# Altium schematic symbol library AudioAmplifierBasic.SchLib: 29 symbols
Pins are listed as number, name and electrical type; pins without a type are passive.

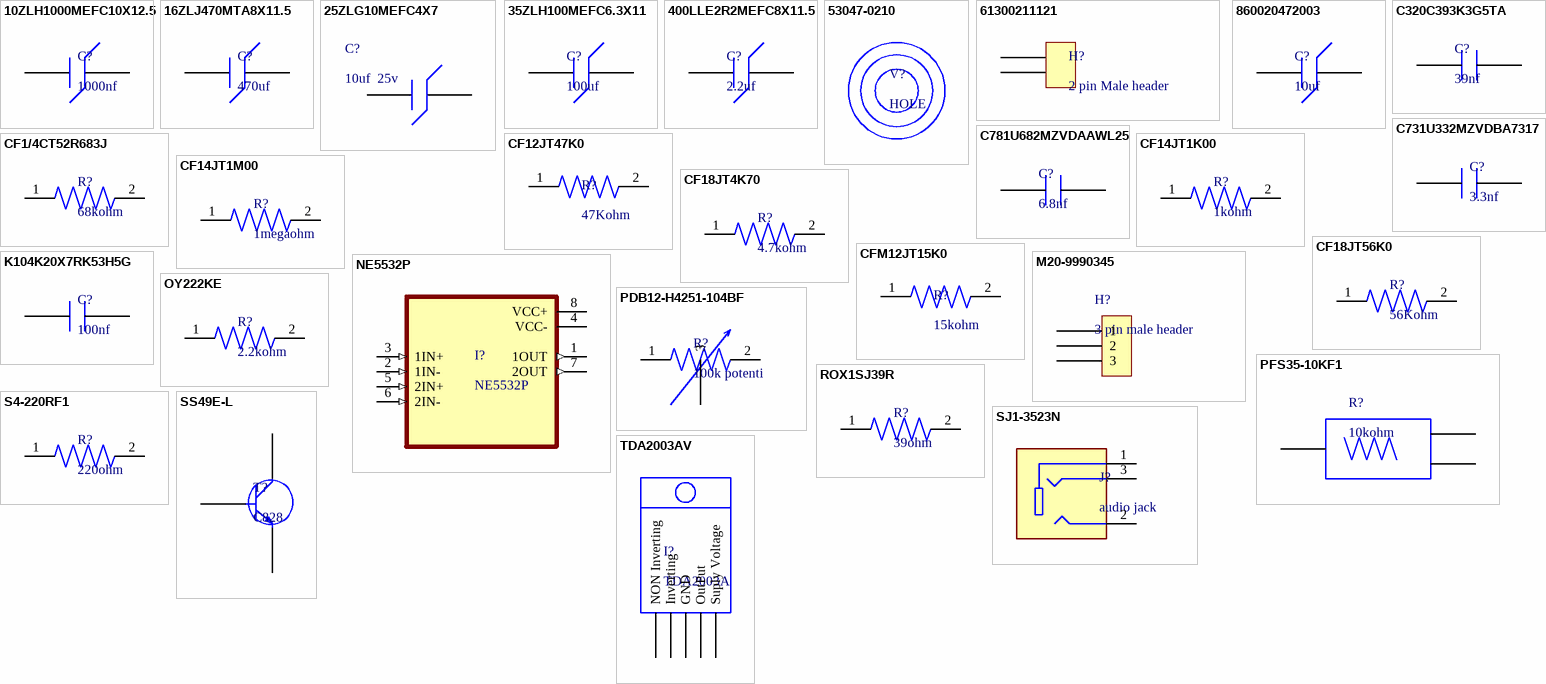
[diagram p0: symbols 10ZLH1000MEFC10X12.5 to TDA2003AV]

## 10ZLH1000MEFC10X12.5
designator C?, comment 1000nf
Aluminum Electrolytic Capacitor, Polarized, Aluminum (wet), 10V, 20% +Tol, 20% -Tol, 1000uF, Through Hole Mount; Manufacturer: Rubycon; Manufacturer Part Number: 10ZLH1000MEFC10X12.5; Dielectric Material: Aluminium; Value: 1mF; Ripple Current: 1.33A; Supplier: Digikey; Supplier Part Number: 1189-1072-ND; RoHS: Yes; Category: Aluminum Electrolytic Capacitors; Stock: 171118; Pricing: 1=0.51, 10=0.318, 50=0.2356, 100=0.2095, 500=0.16416, 1000=0.14984, 3000=0.13193, 5000=0.12524 (USD); Pins: 2; Min Operating Temperature: -40°C; Max Operating Temperature: 105°C; Polarity: Polarized; Capacitor Type: Aluminium; Tolerance  (fill in as +-): 20%; Package Style: RadialMeter; Packaging: Bulk; Tolerance (fill in as +-): 20%; Rated DC Voltage (URdc): 10V; Diameter: 10mm; Length: 12.5mm; Terminal Pitch: 5mm; Reach SVHC Compliant: Yes; RoHS Compliant: Yes; ComponentLink1URL: https://datasheet.ciiva.com:443/pdfs/VipMasterIC/IC/RUBY/RUBYS01453/RUBYS01453-1.pdf?src-supplier=IHS+Markit; ComponentLink1Description: https://datasheet.ciiva.com:443/pdfs/VipMasterIC/IC/RUBY/RUBYS01453/RUBYS01453-1.pdf?src-supplier=IHS+Markit; ComponentLink2URL: https://datasheet.ciiva.com/11779/0900766b80e2f602-11779591.pdf?src-supplier=Rs; ComponentLink2Description: https://datasheet.ciiva.com/11779/0900766b80e2f602-11779591.pdf?src-supplier=Rs; ComponentLink3URL: https://datasheet.ciiva.com/6316/e-zlh-6316685.pdf?src-supplier=Digikey; ComponentLink3Description: https://datasheet.ciiva.com/6316/e-zlh-6316685.pdf?src-supplier=Digikey; ComponentLink4URL: https://datasheet.ciiva.com/11690/e-zlh-11690747.pdf?src-supplier=Avnet; ComponentLink4Description: https://datasheet.ciiva.com/11690/e-zlh-11690747.pdf?src-supplier=Avnet; ComponentLink5URL: https://datasheet.ciiva.com/22732/1910927-22732378.pdf?src-supplier=Element14; ComponentLink5Description: https://datasheet.ciiva.com/22732/1910927-22732378.pdf?src-supplier=Element14
footprint Capasitor
pins: 1, 2

## 16ZLJ470MTA8X11.5
designator C?, comment 470uf
Aluminum Electrolytic Capacitor, Polarized, Aluminum (wet), 16V, 20% +Tol, 20% -Tol, 470uF; Manufacturer: Rubycon; Manufacturer Part Number: 16ZLJ470MTA8X11.5; Dielectric Material: Aluminium; Ripple Current: 1.2A; Supplier: Digikey; Supplier Part Number: 1189-1549-1-ND; RoHS: Yes; Category: Aluminum Electrolytic Capacitors; Stock: 34781; Pricing: 1=0.49, 10=0.305, 50=0.2254, 100=0.2001, 500=0.15654 (USD); Pins: 2; Min Operating Temperature: -40°C; Max Operating Temperature: 105°C; Polarity: Polarized; Value: 470uF; Capacitor Type: Aluminium; Tolerance  (fill in as +-): 20%; Package Style: RadialMeter; Packaging: Tape and Reel; Tolerance (fill in as +-): 20%; Rated DC Voltage (URdc): 16V; Diameter: 8mm; Length: 11.5mm; Terminal Pitch: 5mm; Reach SVHC Compliant: Yes; RoHS Compliant: Yes; ComponentLink1URL: https://datasheet.ciiva.com:443/pdfs/VipMasterIC/IC/RUBY/RUBYS01454/RUBYS01454-1.pdf?src-supplier=IHS+Markit; ComponentLink1Description: https://datasheet.ciiva.com:443/pdfs/VipMasterIC/IC/RUBY/RUBYS01454/RUBYS01454-1.pdf?src-supplier=IHS+Markit; ComponentLink2URL: https://datasheet.ciiva.com/22732/1725816-22732487.pdf?src-supplier=Element14; ComponentLink2Description: https://datasheet.ciiva.com/22732/1725816-22732487.pdf?src-supplier=Element14; ComponentLink3URL: https://datasheet.ciiva.com/6300/e-zlj-6300999.pdf?src-supplier=Digikey; ComponentLink3Description: https://datasheet.ciiva.com/6300/e-zlj-6300999.pdf?src-supplier=Digikey; ComponentLink4URL: https://datasheet.ciiva.com/6301/e-zlj-6301065.pdf?src-supplier=Digikey; ComponentLink4Description: https://datasheet.ciiva.com/6301/e-zlj-6301065.pdf?src-supplier=Digikey
footprint Capasitor
pins: 1, 2

## 25ZLG10MEFC4X7
designator C?, comment 10uf  25v
Aluminum Electrolytic Capacitor, Polarized, Aluminum (wet), 25V, 20% +Tol, 20% -Tol, 10uF, Through Hole Mount; Manufacturer: Rubycon; Manufacturer Part Number: 25ZLG10MEFC4X7; Dielectric Material: Aluminium; Leakage Current: 7.5uA; Ripple Current: 55.2mA; Tan Delta: 0.14; Supplier: Farnell; Supplier Part Number: 1281813; RoHS: Yes; Category: Aluminum Electrolytic Capacitors; Pricing: 10=0.161, 100=0.0857, 500=0.084 (GBP); Mounting Technology: Through Hole; Pins: 2; Package Shape: Cylindrical; Min Operating Temperature: -40°C; Max Operating Temperature: 105°C; Polarity: Polarized; Value: 10uF; Capacitor Type: Aluminium; Tolerance  (fill in as +-): 20%; Package Style: RadialMeter; Packaging: Bulk; Tolerance (fill in as +-): 20%; Rated DC Voltage (URdc): 25V; Termination: Wire; Diameter: 4mm; Length: 7mm; Terminal Pitch: 1.5mm; Reach SVHC Compliant: Yes; RoHS Compliant: Yes; ComponentLink1URL: https://datasheet.ciiva.com:443/pdfs/VipMasterIC/IC/RUBY/RUBY-S-A0008141769/RUBY-S-A0008141769-1.pdf?src-supplier=IHS+Markit; ComponentLink1Description: https://datasheet.ciiva.com:443/pdfs/VipMasterIC/IC/RUBY/RUBY-S-A0008141769/RUBY-S-A0008141769-1.pdf?src-supplier=IHS+Markit; ComponentLink2URL: https://datasheet.ciiva.com/6309/e-zlg-6309557.pdf?src-supplier=Digikey; ComponentLink2Description: https://datasheet.ciiva.com/6309/e-zlg-6309557.pdf?src-supplier=Digikey; ComponentLink3URL: https://datasheet.ciiva.com/11691/e-zlg-11691071.pdf?src-supplier=Avnet; ComponentLink3Description: https://datasheet.ciiva.com/11691/e-zlg-11691071.pdf?src-supplier=Avnet; ComponentLink4URL: https://datasheet.ciiva.com/1455/48838-1455972.pdf?src-supplier=Element14; ComponentLink4Description: https://datasheet.ciiva.com/1455/48838-1455972.pdf?src-supplier=Element14
footprint Capasitor
pins: 1, 2

## 35ZLH100MEFC6.3X11
designator C?, comment 100uf
Aluminum Electrolytic Capacitor, Polarized, Aluminum (wet), 35V, 20% +Tol, 20% -Tol, 100uF, Through Hole Mount; Manufacturer: Rubycon; Manufacturer Part Number: 35ZLH100MEFC6.3X11; Manufacturer Series: ZLH; Dielectric Material: Aluminium; Ripple Current: 540mA; Supplier: Digikey; Supplier Part Number: 1189-1300-ND; RoHS: Yes; Category: Aluminum Electrolytic Capacitors; Stock: 13897; Pricing: 1=0.31, 10=0.187, 50=0.1362, 100=0.1201, 500=0.09204, 2000=0.07579, 4000=0.06965, 6000=0.06655 (USD); Pins: 2; Min Operating Temperature: -40°C; Max Operating Temperature: 105°C; Polarity: Polarized; Value: 100uF; Capacitor Type: Aluminium; Tolerance  (fill in as +-): 20%; Package Style: RadialMeter; Packaging: Bulk; Tolerance (fill in as +-): 20%; Rated DC Voltage (URdc): 35V; Diameter: 6.3mm; Length: 11mm; Terminal Pitch: 2.5mm; Reach SVHC Compliant: Yes; RoHS Compliant: Yes; ComponentLink1URL: https://datasheet.ciiva.com:443/pdfs/VipMasterIC/IC/RUBY/RUBYS01453/RUBYS01453-1.pdf?src-supplier=IHS+Markit; ComponentLink1Description: https://datasheet.ciiva.com:443/pdfs/VipMasterIC/IC/RUBY/RUBYS01453/RUBYS01453-1.pdf?src-supplier=IHS+Markit; ComponentLink2URL: https://datasheet.ciiva.com/11782/0900766b80e2f602-11782304.pdf?src-supplier=Rs; ComponentLink2Description: https://datasheet.ciiva.com/11782/0900766b80e2f602-11782304.pdf?src-supplier=Rs; ComponentLink3URL: https://datasheet.ciiva.com/11690/e-zlh-11690956.pdf?src-supplier=Avnet; ComponentLink3Description: https://datasheet.ciiva.com/11690/e-zlh-11690956.pdf?src-supplier=Avnet; ComponentLink4URL: https://datasheet.ciiva.com/1456/e-zlh-1456215.pdf?src-supplier=Element14; ComponentLink4Description: https://datasheet.ciiva.com/1456/e-zlh-1456215.pdf?src-supplier=Element14; ComponentLink5URL: https://datasheet.ciiva.com/5713/e-zlh-5713612.pdf?src-supplier=Farnell; ComponentLink5Description: https://datasheet.ciiva.com/5713/e-zlh-5713612.pdf?src-supplier=Farnell; ComponentLink6URL: https://datasheet.ciiva.com/6311/e-zlh-6311224.pdf?src-supplier=Digikey; ComponentLink6Description: https://datasheet.ciiva.com/6311/e-zlh-6311224.pdf?src-supplier=Digikey
footprint Capasitor
pins: 1, 2

## 400LLE2R2MEFC8X11.5
designator C?, comment 2.2uf
Aluminum Electrolytic Capacitor, Polarized, Aluminum (wet), 400V, 20% +Tol, 20% -Tol, 2.2uF, Through Hole Mount; Manufacturer: Rubycon; Manufacturer Part Number: 400LLE2R2MEFC8X11.5; Supplier: Digikey; Supplier Part Number: 1189-1329-ND; RoHS: Yes; Category: Aluminum Electrolytic Capacitors; Stock: 36469; Pricing: 1=0.53, 10=0.326, 50=0.2416, 100=0.2148, 500=0.16848, 2000=0.14171, 4000=0.1316, 6000=0.1265 (USD); ComponentLink1URL: https://datasheet.ciiva.com:443/pdfs/VipMasterIC/IC/RUBY/RUBYS01654/RUBYS01654-1.pdf?src-supplier=IHS+Markit; ComponentLink1Description: https://datasheet.ciiva.com:443/pdfs/VipMasterIC/IC/RUBY/RUBYS01654/RUBYS01654-1.pdf?src-supplier=IHS+Markit; ComponentLink2URL: https://datasheet.ciiva.com/29544/e-lle-29544381.pdf?src-supplier=Digikey; ComponentLink2Description: https://datasheet.ciiva.com/29544/e-lle-29544381.pdf?src-supplier=Digikey
footprint Capasitor
pins: 1, 2

## 53047-0210
designator V?, comment HOLE
Board Connector, 2 Contact(s), 1 Row(s), Male, Straight, 0.049 inch Pitch, Solder Terminal, Locking, White Insulator, Receptacle; Manufacturer: Molex; Manufacturer Part Number: 53047-0210; Option: General Purpose; Filter Feature: No; Number of Contacts: 2; Number Of PCB Rows: 1; PCB Contact Pattern: RECTANGULAR; Contact Style: Blade Pin; Mating Information: MULTIPLE MATING PARTS AVAILABLE; Polarization Key: POLARIZED HOUSING; Body Breadth: 0.126inch; Body Depth: 0.165inch; Body Length: 0.167inch; Reference Standard: UL; Reliability: COMMERCIAL; Supplier: Mouser; Supplier Part Number: 538-53047-0210; RoHS: Yes; Category: Headers and Wire Housings; Stock: 47127; Pricing: 1=0.17, 10=0.145, 50=0.122, 100=0.112, 1000=0.09, 10000=0.08 (USD); Mounting Technology: Board; Contact Finish - Mating: TIN; Contact Finish - Termination: Tin (Sn); Insulation Material: Nylon; Insulation Color: White; Termination: Solder; JESD-609 Code: e3; Connector Type: BOARD CONNECTOR; Contact Gender: Male; Mixed Contacts: No; Mounting Style: STRAIGHT; Body/Shell Style: RECEPTACLE; Number of Rows Loaded: 1; Contact Pattern: RECTANGULAR; Number Of Connectors: 1; Terminal Pitch: 1.25mm; Terminal Length: 0.09inch; Mating Contact Pitch: 0.049inch; Mounting Option 1: LOCKING; Flammability Rating: UL94 V-0; RoHS Compliant: Yes; Reach SVHC Compliant: Yes; DIN Conformance: No; IEC Conformance: No; MIL Conformance: No; ComponentLink1URL: https://datasheet.ciiva.com:443/pdfs/VipMasterIC/IC/MOLE/MOLES57524/MOLES57524-1.pdf?src-supplier=IHS+Markit; ComponentLink1Description: https://datasheet.ciiva.com:443/pdfs/VipMasterIC/IC/MOLE/MOLES57524/MOLES57524-1.pdf?src-supplier=IHS+Markit
footprint Via

## 61300211121
designator H?, comment 2 pin Male header
Board Connector, 2 Contact(s), 1 Row(s), Male, Straight, 0.1 inch Pitch, Solder Terminal, Locking, Black Insulator, Plug; Manufacturer: Wurth Electronics; Manufacturer Part Number: 61300211121; Option: General Purpose; Contact Pattern: RECTANGULAR; Contact Resistance: 20mR; Contact Style: SQ PIN-SKT; Dielectric Withstanding Voltage (AC): 500V; Filter Feature: No; Insulation Resistance: 1GR; Number Of Connectors: 1; Rated Current (Signal): 3A; Number of Contacts: 2; Body Length: 0.2inch; Reference Standard: UL; Reliability: COMMERCIAL; Supplier: Digikey; Supplier Part Number: 732-5315-ND; RoHS: Yes; Category: Headers and Wire Housings; Stock: 123899; Pricing: 1=0.12, 10=0.102, 25=0.0848, 50=0.0712, 100=0.0639, 1000=0.06 (USD); Mounting Technology: Board; Contact Material: Copper Alloy; Contact Finish - Mating: GOLD; Contact Finish - Termination: Gold (Au) - with Nickel (Ni) barrier; Insulation Color: Black; Insulation Material: Polybutylene; Min Operating Temperature: -40°C; Max Operating Temperature: 125°C; Connector Type: BOARD CONNECTOR; JESD-609 Code: e4; Body/Shell Style: PLUG; Contact Gender: Male; Mixed Contacts: No; Mounting Style: STRAIGHT; Number of Rows Loaded: 1; PCB Contact Pattern: RECTANGULAR; Termination: Solder; Body Breadth: 0.1inch; Body Depth: 0.1inch; Mating Contact Pitch: 0.1inch; Mounting Option 1: LOCKING; Terminal Length: 0.118inch; Terminal Pitch: 2.54mm; Flammability Rating: UL94 V-0; Reach SVHC Compliant: Yes; RoHS Compliant: Yes; DIN Conformance: No; IEC Conformance: No; MIL Conformance: No; ComponentLink1URL: https://datasheet.ciiva.com:443/pdfs/VipMasterIC/IC/MIDC/MIDCS07676/MIDCS07676-1.pdf?src-supplier=IHS+Markit; ComponentLink1Description: https://datasheet.ciiva.com:443/pdfs/VipMasterIC/IC/MIDC/MIDCS07676/MIDCS07676-1.pdf?src-supplier=IHS+Markit; ComponentLink2URL: https://datasheet.ciiva.com/13619/6130xx11121-48870-13619345.pdf?src-supplier=Mouser; ComponentLink2Description: https://datasheet.ciiva.com/13619/6130xx11121-48870-13619345.pdf?src-supplier=Mouser
footprint 2pin Male Heder
pins: 1 10, 2 11

## 860020472003
designator C?, comment 10uf
Aluminum Electrolytic Capacitor, Aluminum (wet); Manufacturer: Wurth Electronics; Manufacturer Part Number: 860020472003; Dielectric Material: Aluminium; Supplier: Digikey; Supplier Part Number: 732-8820-1-ND; RoHS: Yes; Category: Aluminum Electrolytic Capacitors; Stock: 7970; Pricing: 1=0.1, 50=0.0802, 100=0.0702, 250=0.06212, 500=0.054, 1000=0.0522 (USD); Pins: 2; Capacitor Type: Aluminium; Reach SVHC Compliant: Yes; RoHS Compliant: Yes; ComponentLink1URL: https://datasheet.ciiva.com:443/pdfs/VipMasterIC/IC/MIDC/MIDC-S-A0000766074/MIDC-S-A0000765973-1.pdf?src-supplier=IHS+Markit; ComponentLink1Description: https://datasheet.ciiva.com:443/pdfs/VipMasterIC/IC/MIDC/MIDC-S-A0000766074/MIDC-S-A0000765973-1.pdf?src-supplier=IHS+Markit; ComponentLink2URL: https://katalog.we-online.de/pbs/datasheet/860020472003.pdf?src-supplier=Digikey; ComponentLink2Description: https://katalog.we-online.de/pbs/datasheet/860020472003.pdf?src-supplier=Digikey
footprint Capasitor
pins: 1, 2

## C320C393K3G5TA
designator C?, comment 39nf
Manufacturer: KEMET; Manufacturer Part Number: C320C393K3G5TA; Supplier: Digikey; Supplier Part Number: C320C393K3G5TA-ND; RoHS: No; Category: Ceramic Capacitors; Pricing: 1500=0.15707 (USD)
footprint Ceramic Capacitor 2
pins: 1, 2

## C731U332MZVDBA7317
designator C?, comment 3.3nf
Manufacturer: KEMET; Manufacturer Part Number: C731U332MZVDBA7317; Supplier: Digikey; Supplier Part Number: 399-C731U332MZVDBA7317CT-ND; RoHS: No; Stock: 4998; Pricing: 1=1.17, 10=0.757, 100=0.5449 (USD)
footprint ceramic Capacitor
pins: 1, 2

## C781U682MZVDAAWL25
designator C?, comment 6.8nf
C700KJY SFTY X1-440 Y2-300, Ceramic, 6800 pF, 20%, 440 VAC (X1), 300 VAC (Y2), Y5V, Lead Spacing = 10mm; Manufacturer: KEMET; Manufacturer Part Number: C781U682MZVDAAWL25; Supplier: Mouser; Supplier Part Number: 80-C781U682MZVDAWL25; Stock: 168; Pricing: 1=2.61, 10=2.11, 50=2.11, 100=1.96, 1000=1.34, 10000=1.29 (USD); ComponentLink1URL: https://datasheet.octopart.com/C781U682MZVDAAWL25-KEMET-datasheet-181955793.pdf?src-supplier=Farnell; ComponentLink1Description: https://datasheet.octopart.com/C781U682MZVDAAWL25-KEMET-datasheet-181955793.pdf?src-supplier=Farnell
footprint ceramic Capacitor
pins: 1 6, 2 7

## CF1/4CT52R683J
designator R?, comment 68kohm
Fixed Resistor, Carbon Film, 0.25W, 68000ohm, 300V, 5% +/-Tol, -450,350ppm/Cel, Through Hole Mount; Manufacturer: KOA Speer; Manufacturer Part Number: CF1/4CT52R683J; Power: 250mW; Rated Temperature: 70°C; Value: 68kR; Temperature Coefficient (ppm/Cel): 450; Lead Diameter: 0.6mm; Lead Length: 14mm; Package Length: 6.1mm; Reference Standard: IEC60115-2; Supplier: Digikey; Supplier Part Number: 2019-CF1/4CT52R683JCT-ND; RoHS: Yes; Category: Through-Hole Resistors; Stock: 44894; Pricing: 1=0.1, 10=0.046, 25=0.0384, 50=0.0336, 100=0.0296, 250=0.02512, 500=0.0223, 1000=0.01992 (USD); Mounting Technology: Through Hole; Pins: 2; Package Shape: Tubular; Terminal Finish: Copper; Min Operating Temperature: -55°C; Max Operating Temperature: 155°C; Tolerance: 5%; JESD-609 Code: e2; Resistor Type: FIXED RESISTOR; Construction: Cylindrical; Package Style: AXIAL; Packaging: Tape and Reel; Technology: CARBON FILM; Termination: Wire; Working Voltage: 300V; Reach SVHC Compliant: Yes; RoHS Compliant: Yes; ComponentLink1URL: https://datasheet.ciiva.com:443/pdfs/VipMasterIC/IC/KOAS/KOAS-S-A0009586278/KOAS-S-A0009586278-1.pdf?src-supplier=IHS+Markit; ComponentLink1Description: https://datasheet.ciiva.com:443/pdfs/VipMasterIC/IC/KOAS/KOAS-S-A0009586278/KOAS-S-A0009586278-1.pdf?src-supplier=IHS+Markit; ComponentLink2URL: https://datasheet.ciiva.com/5478/cf-5478892.pdf?src-supplier=Mouser; ComponentLink2Description: https://datasheet.ciiva.com/5478/cf-5478892.pdf?src-supplier=Mouser
footprint Resistor
pins: 1, 2

## CF12JT47K0
designator R?, comment 47Kohm
Fixed Resistor, Carbon Film, 0.5W, 47000ohm, 350V, 5% +/-Tol, -500,0ppm/Cel, Through Hole Mount; Manufacturer: Stackpole Electronics; Manufacturer Part Number: CF12JT47K0; Power: 500mW; Rated Temperature: 70°C; Value: 47kR; Temperature Coefficient (ppm/Cel): 500; Lead Diameter: 0.55mm; Lead Length: 28mm; Package Length: 8.5mm; Supplier: Digikey; Supplier Part Number: CF12JT47K0CT-ND; RoHS: Yes; Category: Through-Hole Resistors; Stock: 190385; Pricing: 1=0.1, 10=0.036, 25=0.0296, 50=0.026, 100=0.0229, 250=0.01936, 500=0.01718, 1000=0.01531 (USD); Mounting Technology: Through Hole; Pins: 2; Package Shape: Tubular; Terminal Finish: Tin; Min Operating Temperature: -55°C; Max Operating Temperature: 155°C; Tolerance: 5%; JESD-609 Code: e3; Resistor Type: FIXED RESISTOR; Construction: Tubular; Package Style: AXIAL; Packaging: Tape and Reel; Technology: CARBON FILM; Termination: Wire; Working Voltage: 350V; Reach SVHC Compliant: Yes; RoHS Compliant: Yes; ComponentLink1URL: https://datasheet.ciiva.com:443/pdfs/VipMasterIC/IC/SEIE/SEIE-S-A0009883960/SEIE-S-A0009883960-1.pdf?src-supplier=IHS+Markit; ComponentLink1Description: https://datasheet.ciiva.com:443/pdfs/VipMasterIC/IC/SEIE/SEIE-S-A0009883960/SEIE-S-A0009883960-1.pdf?src-supplier=IHS+Markit; ComponentLink2URL: http://components.arrow.com/part/dataview/53771568S789882N1174?src-supplier=Arrow+Electronics; ComponentLink2Description: http://components.arrow.com/part/dataview/53771568S789882N1174?src-supplier=Arrow+Electronics; ComponentLink3URL: https://www.seielect.com/catalog/SEI-CF_CFM.pdf?src-supplier=Avnet; ComponentLink3Description: https://www.seielect.com/catalog/SEI-CF_CFM.pdf?src-supplier=Avnet; ComponentLink4URL: https://www.seielect.com/catalog/SEI-Packaging.pdf?src-supplier=Digikey; ComponentLink4Description: https://www.seielect.com/catalog/SEI-Packaging.pdf?src-supplier=Digikey; ComponentLink5URL: http://www.seielect.com/Catalog/SEI-CF_CFM.pdf?src-supplier=Future+Electronics; ComponentLink5Description: http://www.seielect.com/Catalog/SEI-CF_CFM.pdf?src-supplier=Future+Electronics
footprint Resistor
pins: 1, 2

## CF14JT1K00
designator R?, comment 1kohm
Fixed Resistor, Carbon Film, 0.25W, 1000ohm, 350V, 5% +/-Tol, -400,0ppm/Cel, Through Hole Mount; Manufacturer: Stackpole Electronics; Manufacturer Part Number: CF14JT1K00; Power: 250mW; Rated Temperature: 70°C; Value: 1kR; Temperature Coefficient (ppm/Cel): 400; Lead Diameter: 0.55mm; Lead Length: 28mm; Package Length: 6mm; Supplier: Digikey; Supplier Part Number: CF14JT1K00CT-ND; RoHS: Yes; Category: Through-Hole Resistors; Stock: 680385; Pricing: 1=0.1, 10=0.026, 25=0.022, 50=0.0192, 100=0.0169, 250=0.01424, 500=0.0126, 1000=0.0112 (USD); Mounting Technology: Through Hole; Pins: 2; Package Shape: Tubular; Terminal Finish: Tin; Min Operating Temperature: -55°C; Max Operating Temperature: 155°C; Tolerance: 5%; Resistor Type: FIXED RESISTOR; Construction: Tubular; Package Style: AXIAL; Packaging: Tape and Reel; Technology: CARBON FILM; Termination: Wire; Working Voltage: 350V; JESD-609 Code: e3; Reach SVHC Compliant: Yes; RoHS Compliant: Yes; ComponentLink1URL: https://datasheet.ciiva.com:443/pdfs/VipMasterIC/IC/SEIE/SEIE-S-A0009883960/SEIE-S-A0009883960-1.pdf?src-supplier=IHS+Markit; ComponentLink1Description: https://datasheet.ciiva.com:443/pdfs/VipMasterIC/IC/SEIE/SEIE-S-A0009883960/SEIE-S-A0009883960-1.pdf?src-supplier=IHS+Markit; ComponentLink2URL: https://www.seielect.com/catalog/SEI-Packaging.pdf?src-supplier=Digikey; ComponentLink2Description: https://www.seielect.com/catalog/SEI-Packaging.pdf?src-supplier=Digikey; ComponentLink3URL: https://www.seielect.com/Catalog/SEI-CF_CFM.pdf?src-supplier=Digikey; ComponentLink3Description: https://www.seielect.com/Catalog/SEI-CF_CFM.pdf?src-supplier=Digikey; ComponentLink4URL: https://www.seielect.com/catalog/SEI-CF_CFM.pdf?src-supplier=Avnet; ComponentLink4Description: https://www.seielect.com/catalog/SEI-CF_CFM.pdf?src-supplier=Avnet; ComponentLink5URL: http://components.arrow.com/part/dataview/27620077S9848643N1174?src-supplier=Arrow+Electronics; ComponentLink5Description: http://components.arrow.com/part/dataview/27620077S9848643N1174?src-supplier=Arrow+Electronics; ComponentLink6URL: http://www.seielect.com/Catalog/SEI-CF_CFM.pdf?src-supplier=Future+Electronics; ComponentLink6Description: http://www.seielect.com/Catalog/SEI-CF_CFM.pdf?src-supplier=Future+Electronics; ComponentLink7URL: https://datasheet.octopart.com/CF14JT1K00-Stackpole-Electronics-datasheet-8360004.pdf?src-supplier=Future+Electronics; ComponentLink7Description: https://datasheet.octopart.com/CF14JT1K00-Stackpole-Electronics-datasheet-8360004.pdf?src-supplier=Future+Electronics; ComponentLink8URL: https://www.verical.com/server-webapp/html/getDatasheet?partID=360403&src-supplier=Verical; ComponentLink8Description: https://www.verical.com/server-webapp/html/getDatasheet?partID=360403&src-supplier=Verical; ComponentLink9URL: https://datasheet.octopart.com/CF14JT1K00-Stackpole-Electronics-datasheet-32780772.pdf?src-supplier=Master+Electronics; ComponentLink9Description: https://datasheet.octopart.com/CF14JT1K00-Stackpole-Electronics-datasheet-32780772.pdf?src-supplier=Master+Electronics
footprint Resistor
pins: 1, 2

## CF14JT1M00
designator R?, comment 1megaohm
Fixed Resistor, Carbon Film, 0.25W, 1000000ohm, 350V, 5% +/-Tol, -1500,0ppm/Cel, Through Hole Mount; Manufacturer: Stackpole Electronics; Manufacturer Part Number: CF14JT1M00; Power: 250mW; Rated Temperature: 70°C; Value: 1MR; Temperature Coefficient (ppm/Cel): 1500; Lead Diameter: 0.55mm; Lead Length: 28mm; Package Length: 6mm; Supplier: Digikey; Supplier Part Number: CF14JT1M00CT-ND; RoHS: Yes; Category: Through-Hole Resistors; Stock: 240510; Pricing: 1=0.1, 10=0.026, 25=0.022, 50=0.0192, 100=0.0169, 250=0.01424, 500=0.0126, 1000=0.0112 (USD); Mounting Technology: Through Hole; Pins: 2; Package Shape: Tubular; Terminal Finish: Tin; Min Operating Temperature: -55°C; Max Operating Temperature: 155°C; Tolerance: 5%; Resistor Type: FIXED RESISTOR; Construction: Tubular; Package Style: AXIAL; Packaging: Tape and Reel; Technology: CARBON FILM; Termination: Wire; Working Voltage: 350V; JESD-609 Code: e3; Reach SVHC Compliant: Yes; RoHS Compliant: Yes; ComponentLink1URL: https://datasheet.ciiva.com:443/pdfs/VipMasterIC/IC/SEIE/SEIE-S-A0009883960/SEIE-S-A0009883960-1.pdf?src-supplier=IHS+Markit; ComponentLink1Description: https://datasheet.ciiva.com:443/pdfs/VipMasterIC/IC/SEIE/SEIE-S-A0009883960/SEIE-S-A0009883960-1.pdf?src-supplier=IHS+Markit; ComponentLink2URL: https://datasheet.ciiva.com/15193/getdatasheetpartid-359898-15193308.pdf?src-supplier=Verical; ComponentLink2Description: https://datasheet.ciiva.com/15193/getdatasheetpartid-359898-15193308.pdf?src-supplier=Verical
footprint Resistor
pins: 1, 2

## CF18JT4K70
designator R?, comment 4.7kohm
Fixed Resistor, Carbon Film, 0.125W, 4700ohm, 250V, 5% +/-Tol, -400,0ppm/Cel, Through Hole Mount; Manufacturer: Stackpole Electronics; Manufacturer Part Number: CF18JT4K70; Power: 125mW; Rated Temperature: 70°C; Value: 4.7kR; Temperature Coefficient (ppm/Cel): 400; Lead Diameter: 0.4mm; Lead Length: 28mm; Package Length: 3.3mm; Supplier: Digikey; Supplier Part Number: CF18JT4K70CT-ND; RoHS: Yes; Category: Through-Hole Resistors; Stock: 179076; Pricing: 1=0.1, 10=0.022, 25=0.0188, 50=0.0162, 100=0.0143, 250=0.01204, 500=0.01062, 1000=0.00943 (USD); Mounting Technology: Through Hole; Pins: 2; Package Shape: Tubular; Terminal Finish: Tin; Min Operating Temperature: -55°C; Max Operating Temperature: 155°C; Tolerance: 5%; JESD-609 Code: e3; Resistor Type: FIXED RESISTOR; Construction: Tubular; Package Style: AXIAL; Packaging: Tape and Reel; Technology: CARBON FILM; Termination: Wire; Working Voltage: 250V; Reach SVHC Compliant: Yes; RoHS Compliant: Yes; ComponentLink1URL: https://datasheet.ciiva.com:443/pdfs/VipMasterIC/IC/SEIE/SEIE-S-A0009883960/SEIE-S-A0009883960-1.pdf?src-supplier=IHS+Markit; ComponentLink1Description: https://datasheet.ciiva.com:443/pdfs/VipMasterIC/IC/SEIE/SEIE-S-A0009883960/SEIE-S-A0009883960-1.pdf?src-supplier=IHS+Markit; ComponentLink2URL: https://datasheet.ciiva.com/15193/getdatasheetpartid-408268-15193341.pdf?src-supplier=Verical; ComponentLink2Description: https://datasheet.ciiva.com/15193/getdatasheetpartid-408268-15193341.pdf?src-supplier=Verical
footprint Resistor
pins: 1, 2

## CF18JT56K0
designator R?, comment 56Kohm
Fixed Resistor, Carbon Film, 0.125W, 56000ohm, 250V, 5% +/-Tol, -500,0ppm/Cel, Through Hole Mount; Manufacturer: Stackpole Electronics; Manufacturer Part Number: CF18JT56K0; Power: 125mW; Rated Temperature: 70°C; Value: 56kR; Temperature Coefficient (ppm/Cel): 500; Lead Diameter: 0.4mm; Lead Length: 28mm; Package Length: 3.3mm; Supplier: Digikey; Supplier Part Number: CF18JT56K0CT-ND; RoHS: Yes; Category: Through-Hole Resistors; Stock: 85340; Pricing: 1=0.1, 10=0.022, 25=0.0188, 50=0.0162, 100=0.0143, 250=0.01204, 500=0.01062, 1000=0.00943 (USD); Mounting Technology: Through Hole; Pins: 2; Package Shape: Tubular; Terminal Finish: Tin; Min Operating Temperature: -55°C; Max Operating Temperature: 155°C; Tolerance: 5%; JESD-609 Code: e3; Resistor Type: FIXED RESISTOR; Construction: Tubular; Package Style: AXIAL; Packaging: Tape and Reel; Technology: CARBON FILM; Termination: Wire; Working Voltage: 250V; Reach SVHC Compliant: Yes; RoHS Compliant: Yes; ComponentLink1URL: https://datasheet.ciiva.com:443/pdfs/VipMasterIC/IC/SEIE/SEIE-S-A0009883960/SEIE-S-A0009883960-1.pdf?src-supplier=IHS+Markit; ComponentLink1Description: https://datasheet.ciiva.com:443/pdfs/VipMasterIC/IC/SEIE/SEIE-S-A0009883960/SEIE-S-A0009883960-1.pdf?src-supplier=IHS+Markit; ComponentLink2URL: https://www.seielect.com/Catalog/SEI-CF_CFM.pdf?src-supplier=Digikey; ComponentLink2Description: https://www.seielect.com/Catalog/SEI-CF_CFM.pdf?src-supplier=Digikey; ComponentLink3URL: https://www.seielect.com/catalog/SEI-CF_CFM.pdf?src-supplier=Avnet; ComponentLink3Description: https://www.seielect.com/catalog/SEI-CF_CFM.pdf?src-supplier=Avnet
footprint Resistor
pins: 1, 2

## CFM12JT15K0
designator R?, comment 15kohm
Fixed Resistor, Carbon Film, 0.5W, 15000ohm, 350V, 5% +/-Tol, -500,0ppm/Cel, Through Hole Mount; Manufacturer: Stackpole Electronics; Manufacturer Part Number: CFM12JT15K0; Power: 500mW; Rated Temperature: 70°C; Value: 15kR; Temperature Coefficient (ppm/Cel): 500; Lead Diameter: 0.55mm; Lead Length: 28mm; Package Length: 6mm; Supplier: Digikey; Supplier Part Number: S15KHCT-ND; RoHS: Yes; Category: Through-Hole Resistors; Stock: 89193; Pricing: 1=0.1, 10=0.031, 25=0.0256, 50=0.0224, 100=0.0197, 250=0.01668, 500=0.01478, 1000=0.01316 (USD); Mounting Technology: Through Hole; Pins: 2; Package Shape: Tubular; Terminal Finish: Tin; Min Operating Temperature: -55°C; Max Operating Temperature: 155°C; Tolerance: 5%; JESD-609 Code: e3; Resistor Type: FIXED RESISTOR; Construction: Tubular; Package Style: AXIAL; Packaging: Tape and Reel; Technology: CARBON FILM; Termination: Wire; Working Voltage: 350V; Reach SVHC Compliant: Yes; RoHS Compliant: Yes; ComponentLink1URL: https://datasheet.ciiva.com:443/pdfs/VipMasterIC/IC/SEIE/SEIE-S-A0009883960/SEIE-S-A0009883960-1.pdf?src-supplier=IHS+Markit; ComponentLink1Description: https://datasheet.ciiva.com:443/pdfs/VipMasterIC/IC/SEIE/SEIE-S-A0009883960/SEIE-S-A0009883960-1.pdf?src-supplier=IHS+Markit; ComponentLink2URL: https://www.seielect.com/catalog/SEI-Packaging.pdf?src-supplier=Digikey; ComponentLink2Description: https://www.seielect.com/catalog/SEI-Packaging.pdf?src-supplier=Digikey; ComponentLink3URL: https://www.seielect.com/catalog/sei-cf_cfm.pdf?src-supplier=Digikey; ComponentLink3Description: https://www.seielect.com/catalog/sei-cf_cfm.pdf?src-supplier=Digikey; ComponentLink4URL: https://www.seielect.com/catalog/SEI-CF_CFM.pdf?src-supplier=Avnet; ComponentLink4Description: https://www.seielect.com/catalog/SEI-CF_CFM.pdf?src-supplier=Avnet
footprint Resistor
pins: 1, 2

## K104K20X7RK53H5G
designator C?, comment 100nf
Manufacturer: Vishay BCcomponents; Manufacturer Part Number: K104K20X7RK53H5G; Supplier: Digikey; Supplier Part Number: 56-K104K20X7RK53H5G-ND; RoHS: No; Category: Ceramic Capacitors; Stock: 17432; Pricing: 1=0.87, 10=0.559, 100=0.4058, 1000=0.31705, 3000=0.29613 (USD)
footprint ceramic Capacitor
pins: 1 6, 2 7

## M20-9990345
designator H?, comment 3 pin male header
Board Connector, 3 Contact(s), 1 Row(s), Male, Straight, 0.1 inch Pitch, Solder Terminal, Locking, Black Insulator; Manufacturer: Harwin; Manufacturer Part Number: M20-9990345; Option: General Purpose; Additional Feature: ROHS COMPLIANT; Body/Shell Style: RECEPTACLE; Contact Pattern: RECTANGULAR; Contact Resistance: 25mR; Dielectric Withstanding Voltage (AC): 750V; Durability: 300Cycles; Filter Feature: No; Insulation Resistance: 1GR; Number Of Connectors: 1; Rated Current (Signal): 3A; Number of Contacts: 3; Body Length: 0.3inch; Reference Standard: UL; Reliability: COMMERCIAL; Supplier: Digikey; Supplier Part Number: 952-2263-ND; RoHS: Yes; Category: Headers and Wire Housings; Stock: 57860; Pricing: 1=0.15, 10=0.124, 100=0.1053, 500=0.09398, 1000=0.08949, 5000=0.07987, 10000=0.07606 (USD); Mounting Technology: Board; Contact Material: Brass; Contact Finish - Mating: GOLD; Contact Finish - Termination: Gold (Au) - with Nickel (Ni) barrier; Insulation Color: Black; Insulation Material: Nylon; Min Operating Temperature: -40°C; Max Operating Temperature: 105°C; Connector Type: BOARD CONNECTOR; JESD-609 Code: e4; Contact Gender: Male; Mixed Contacts: No; Mounting Style: STRAIGHT; Number Of PCB Rows: 1; Number of Rows Loaded: 1; Termination: Solder; Body Breadth: 0.1inch; Body Depth: 0.1inch; Mating Contact Pitch: 0.1inch; Mounting Option 1: LOCKING; Terminal Length: 0.118inch; Terminal Pitch: 2.54mm; Flammability Rating: UL94 V-0; DIN Conformance: No; IEC Conformance: No; MIL Conformance: No; Reach SVHC Compliant: Yes; RoHS Compliant: Yes; ComponentLink1URL: https://datasheet.ciiva.com:443/pdfs/VipMasterIC/IC/HRWN/HRWN-S-A0003033920/HRWN-S-A0003397280-1.pdf?src-supplier=IHS+Markit; ComponentLink1Description: https://datasheet.ciiva.com:443/pdfs/VipMasterIC/IC/HRWN/HRWN-S-A0003033920/HRWN-S-A0003397280-1.pdf?src-supplier=IHS+Markit; ComponentLink2URL: https://datasheet.ciiva.com/11747/0900766b80da602d-11747505.pdf?src-supplier=Rs; ComponentLink2Description: https://datasheet.ciiva.com/11747/0900766b80da602d-11747505.pdf?src-supplier=Rs; ComponentLink3URL: https://datasheet.ciiva.com/5160/m20-999-351179-5160492.pdf?src-supplier=Mouser; ComponentLink3Description: https://datasheet.ciiva.com/5160/m20-999-351179-5160492.pdf?src-supplier=Mouser; ComponentLink4URL: https://datasheet.ciiva.com/10151/m20-999-10151334.pdf?src-supplier=Avnet; ComponentLink4Description: https://datasheet.ciiva.com/10151/m20-999-10151334.pdf?src-supplier=Avnet
footprint 3 pin Male header
pins: 1, 2, 3

## NE5532P
designator I?
Operational Amplifier, 2 Func, 5000uV Offset-Max, BIPolar, PDIP8; Manufacturer: Texas Instruments; Package Body Material: Plastic; Architecture: VOLTAGE-FEEDBACK; Average Bias Current-Max (IIB): 1uA; Bias Current-Max (IIB) @25C: 800nA; Common-mode Reject Ratio-Nom: 100dB; Frequency Compensation: YES; Input Offset Voltage-Max: 5mV; Low-Offset: No; Neg Supply Voltage Limit-Max: -22V; Neg Supply Voltage-Nom (Vsup): -15V; Channels: 2; Package Equivalence Code: DIP8,.3; Power Supplies: +-5/+-15/10/30V; Slew Rate: 9V/µs; Max Supply Current: 16mA; Supply Voltage Limit-Max: 22V; Nominal Supply Voltage: 15V; Surface Mount: No; Unity Gain BW-Nom: 10MHz; Voltage Gain-Min: 10000; Common Mode Rejection Ratio-Min: 70dB; Qualification Status: Not Qualified; Supplier: Mouser; Supplier Part Number: 595-NE5532P; Manufacturer Part Number: NE5532P; RoHS: Yes; Category: Amplifiers - Op Amps, Buffer, Instrumentation; Stock: 14297; Pricing: 1=0.57, 10=0.402, 50=0.335, 100=0.313, 1000=0.266, 10000=0.254 (USD); Case/Package: DIP; Pins: 8; Package Shape: Rectangular; Terminal Finish: Tin; Min Operating Temperature: 0°C; Max Operating Temperature: 70°C; JESD-609 Code: e3; Amplifier Type: OPERATIONAL AMPLIFIER; JESD-30 Code: R-PDIP-T8; Package Style: IN-LINEMeter; Packaging: Rail/Tube; Technology: BIPOLAR; Terminal Form: Through Hole; Terminal Position: DUAL; Length: 9.81mm; Width: 7.62mm; Height - Seated (Max): 5.08mm; Terminal Pitch: 2.54mm; Temperature Grade: COMMERCIAL; Reach SVHC Compliant: Yes; RoHS Compliant: Yes; ComponentLink1URL: https://www.ti.com:443/lit/ds/symlink/ne5532.pdf?src-supplier=IHS+Markit; ComponentLink1Description: https://www.ti.com:443/lit/ds/symlink/ne5532.pdf?src-supplier=IHS+Markit; ComponentLink2URL: https://datasheet.ciiva.com/14151/jyne5532-e-14151126.pdf?src-supplier=Distrelec; ComponentLink2Description: https://datasheet.ciiva.com/14151/jyne5532-e-14151126.pdf?src-supplier=Distrelec; ComponentLink3URL: https://datasheet.ciiva.com/27050/903963-27050795.pdf?src-supplier=Jameco; ComponentLink3Description: https://datasheet.ciiva.com/27050/903963-27050795.pdf?src-supplier=Jameco; ComponentLink4URL: https://datasheet.ciiva.com/15129/getdatasheetpartid-41254-15129711.pdf?src-supplier=Verical; ComponentLink4Description: https://datasheet.ciiva.com/15129/getdatasheetpartid-41254-15129711.pdf?src-supplier=Verical; ComponentLink5URL: https://datasheet.ciiva.com/26325/151768-da-01-en-ne-5532p-26325914.pdf?src-supplier=Conrad; ComponentLink5Description: https://datasheet.ciiva.com/26325/151768-da-01-en-ne-5532p-26325914.pdf?src-supplier=Conrad; ComponentLink6URL: https://datasheet.ciiva.com/1803/ne5532-1803186.pdf?src-supplier=Digikey; ComponentLink6Description: https://datasheet.ciiva.com/1803/ne5532-1803186.pdf?src-supplier=Digikey; ComponentLink7URL: https://datasheet.ciiva.com/2973/sa5532a-2973704.pdf?src-supplier=Avnet; ComponentLink7Description: https://datasheet.ciiva.com/2973/sa5532a-2973704.pdf?src-supplier=Avnet
footprint NE5532P
pins: 1 1OUT (out), 2 1IN- (in), 3 1IN+ (in), 4 VCC- (power), 5 2IN+ (in), 6 2IN- (in), 7 2OUT (out), 8 VCC+ (power)

## OY222KE
designator R?, comment 2.2kohm
Fixed Resistor, Ceramic Composition, 2W, 2200ohm, 400V, 10% +/-Tol, 1600ppm/Cel, Through Hole Mount; Manufacturer: Ohmite; Manufacturer Part Number: OY222KE; Rated Temperature: 70°C; Value: 2.2kR; Temperature Coefficient (ppm/Cel): 1600; Lead Diameter: 0.8mm; Lead Length: 38mm; Package Length: 19mm; Supplier: Digikey; Supplier Part Number: OY222KE-ND; RoHS: Yes; Category: Through-Hole Resistors; Stock: 1622; Pricing: 1=3.52, 10=2.365, 25=2.0516, 50=1.8554, 100=1.6884, 250=1.50564, 500=1.39132, 1000=1.29418, 5000=1.12139 (USD); Mounting Technology: Through Hole; Pins: 2; Package Shape: Tubular; Terminal Finish: Copper; Min Operating Temperature: -40°C; Max Operating Temperature: 220°C; Tolerance: 10%; JESD-609 Code: e2; Resistor Type: FIXED RESISTOR; Construction: Cylindrical; Package Style: AXIAL; Packaging: Tape and Reel; Power: 2W; Series: OY; Technology: CERAMIC COMPOSITION; Termination: Wire; Working Voltage: 400V; Reach SVHC Compliant: Yes; RoHS Compliant: Yes; ComponentLink1URL: https://datasheet.ciiva.com:443/pdfs/VipMasterIC/IC/OMIT/OMITS00880/OMITS00880-1.pdf?src-supplier=IHS+Markit; ComponentLink1Description: https://datasheet.ciiva.com:443/pdfs/VipMasterIC/IC/OMIT/OMITS00880/OMITS00880-1.pdf?src-supplier=IHS+Markit; ComponentLink2URL: https://datasheet.ciiva.com/2716/res-ox-oy-2716360.pdf?src-supplier=Digikey; ComponentLink2Description: https://datasheet.ciiva.com/2716/res-ox-oy-2716360.pdf?src-supplier=Digikey; ComponentLink3URL: https://datasheet.ciiva.com/16723/70022171-16723470.pdf?src-supplier=Allied+Electronics; ComponentLink3Description: https://datasheet.ciiva.com/16723/70022171-16723470.pdf?src-supplier=Allied+Electronics; ComponentLink4URL: https://datasheet.ciiva.com/15784/ox-oy-series-15784138.pdf?src-supplier=Onlinecomponents.com; ComponentLink4Description: https://datasheet.ciiva.com/15784/ox-oy-series-15784138.pdf?src-supplier=Onlinecomponents.com; ComponentLink5URL: https://datasheet.ciiva.com/15199/getdatasheetpartid-693640-15199061.pdf?src-supplier=Verical; ComponentLink5Description: https://datasheet.ciiva.com/15199/getdatasheetpartid-693640-15199061.pdf?src-supplier=Verical; ComponentLink6URL: https://datasheet.ciiva.com/7715/95960-7715879.pdf?src-supplier=Element14; ComponentLink6Description: https://datasheet.ciiva.com/7715/95960-7715879.pdf?src-supplier=Element14
footprint Resistor
pins: 1, 2

## PDB12-H4251-104BF
designator R?, comment 100k potenti
Potentiometer, Carbon, 0.08W, 100000ohm, 150V, 20% +/-Tol; Manufacturer: Bourns; Manufacturer Part Number: PDB12-H4251-104BF; Power: 80mW; Value: 100kR; Rotational Angle: 300°; Package Length: 8.7mm; Supplier: Digikey; Supplier Part Number: PDB12-H4251-104BF-ND; RoHS: Yes; Category: Variable Resistors and Potentiometers; Stock: 619; Pricing: 1=1.11, 10=0.937, 25=0.8744, 50=0.83, 100=0.7875, 300=0.72413, 500=0.6963, 1000=0.66014, 2500=0.61504 (USD); Terminal Finish: Tin; Tolerance: 20%; JESD-609 Code: e3; Resistor Type: Potentiometer; Construction: Rotary; Technology: CARBON; Working Voltage: 150V; Reach SVHC Compliant: Yes; RoHS Compliant: Yes; ComponentLink1URL: https://datasheet.ciiva.com:443/pdfs/VipMasterIC/IC/BOUR/BOUR-S-A0002520119/BOUR-S-A0002520119-1.pdf?src-supplier=IHS+Markit; ComponentLink1Description: https://datasheet.ciiva.com:443/pdfs/VipMasterIC/IC/BOUR/BOUR-S-A0002520119/BOUR-S-A0002520119-1.pdf?src-supplier=IHS+Markit; ComponentLink2URL: https://datasheet.ciiva.com/4992/pdb12-27502-4992016.pdf?src-supplier=Mouser; ComponentLink2Description: https://datasheet.ciiva.com/4992/pdb12-27502-4992016.pdf?src-supplier=Mouser; ComponentLink3URL: https://datasheet.ciiva.com/6249/pdb12-6249578.pdf?src-supplier=Digikey; ComponentLink3Description: https://datasheet.ciiva.com/6249/pdb12-6249578.pdf?src-supplier=Digikey; ComponentLink4URL: https://datasheet.ciiva.com/8700/pdb12-8700988.pdf?src-supplier=Avnet; ComponentLink4Description: https://datasheet.ciiva.com/8700/pdb12-8700988.pdf?src-supplier=Avnet
footprint Potentiometer - duplicate
pins: 1, 2, 3

## PFS35-10KF1
designator R?, comment 10kohm
RES SMD 10K OHM 1% 35W TO263; Manufacturer: Riedon; Manufacturer Part Number: PFS35-10KF1; Supplier: Digikey; Supplier Part Number: 696-1275-1-ND; RoHS: Yes; Category: Chip SMD Resistors; Stock: 1068; Pricing: 1=4.84, 10=4.01, 50=3.536, 100=3.362 (USD); ComponentLink1URL: https://datasheet.ciiva.com/18597/pfs35-18597797.pdf?src-supplier=Digikey; ComponentLink1Description: https://datasheet.ciiva.com/18597/pfs35-18597797.pdf?src-supplier=Digikey
footprint 10Kohm
pins: 1 16, 2 17, 3

## ROX1SJ39R
designator R?, comment 39ohm
Fixed Resistor, Metal Oxide Film, 1W, 39ohm, 350V, 5% +/-Tol, 350ppm/Cel, Through Hole Mount; Manufacturer: TE Connectivity; Manufacturer Part Number: ROX1SJ39R; Manufacturer Series: ROX; Rated Temperature: 70°C; Value: 39R; Temperature Coefficient (ppm/Cel): 300; Lead Diameter: 0.54mm; Package Length: 10mm; Supplier: Digikey; Supplier Part Number: A131465CT-ND; RoHS: Yes; Category: Through-Hole Resistors; Stock: 162196; Pricing: 1=0.1, 10=0.075, 50=0.066, 100=0.0622, 500=0.05628 (USD); Mounting Technology: Through Hole; Pins: 2; Package Shape: Tubular; Min Operating Temperature: -55°C; Max Operating Temperature: 235°C; Tolerance: 5%; Resistor Type: FIXED RESISTOR; Construction: Flameproof; Package Style: AXIAL; Packaging: Ammo Pack; Power: 1W; Series: ROX; Technology: METAL OXIDE FILM; Termination: Wire; Working Voltage: 350V; Reach SVHC Compliant: Yes; RoHS Compliant: Yes; ComponentLink1URL: https://datasheet.ciiva.com:443/pdfs/VipMasterIC/IC/TYEL/TYEL-S-A0009531935/TYEL-S-A0009530835-1.pdf?src-supplier=IHS+Markit; ComponentLink1Description: https://datasheet.ciiva.com:443/pdfs/VipMasterIC/IC/TYEL/TYEL-S-A0009531935/TYEL-S-A0009530835-1.pdf?src-supplier=IHS+Markit; ComponentLink2URL: https://datasheet.ciiva.com/11823/0900766b800275a1-11823946.pdf?src-supplier=Rs; ComponentLink2Description: https://datasheet.ciiva.com/11823/0900766b800275a1-11823946.pdf?src-supplier=Rs; ComponentLink3URL: https://datasheet.ciiva.com/2726/eng-ds-1773271-e-2726594.pdf?src-supplier=Digikey; ComponentLink3Description: https://datasheet.ciiva.com/2726/eng-ds-1773271-e-2726594.pdf?src-supplier=Digikey; ComponentLink4URL: https://datasheet.ciiva.com/16756/70063511-16756136.pdf?src-supplier=Allied+Electronics; ComponentLink4Description: https://datasheet.ciiva.com/16756/70063511-16756136.pdf?src-supplier=Allied+Electronics
footprint Resistor
pins: 1, 2

## S4-220RF1
designator R?, comment 220ohm
RES SMD 220 OHM 1% 2W 4525; Manufacturer: Riedon; Manufacturer Part Number: S4-220RF1; Supplier: Digikey; Supplier Part Number: 696-S4-220RF1CT-ND; RoHS: Yes; Category: Chip SMD Resistors; Stock: 180; Pricing: 1=2.38, 10=1.582, 25=1.3652, 50=1.23, 100=1.1147, 250=0.98852, 500=0.90956 (USD); ComponentLink1URL: https://datasheet.ciiva.com/18599/ssl-18599814.pdf?src-supplier=Digikey; ComponentLink1Description: https://datasheet.ciiva.com/18599/ssl-18599814.pdf?src-supplier=Digikey; ComponentLink2URL: https://datasheet.ciiva.com/18599/ssl-18599815.pdf?src-supplier=Digikey; ComponentLink2Description: https://datasheet.ciiva.com/18599/ssl-18599815.pdf?src-supplier=Digikey; ComponentLink3URL: https://datasheet.ciiva.com/18599/ssl-18599816.pdf?src-supplier=Digikey; ComponentLink3Description: https://datasheet.ciiva.com/18599/ssl-18599816.pdf?src-supplier=Digikey
footprint Resistor
pins: 1, 2

## SJ1-3523N
designator J?, comment audio jack
3 Pole(s), Solder Terminal, Jack; Manufacturer: Same Sky; Manufacturer Part Number: SJ1-3523N; Supplier: Digikey; Supplier Part Number: CP1-3523N-ND; RoHS: Yes; Category: Audio / Video Connectors; Stock: 300382; Pricing: 1=0.78, 10=0.665, 25=0.6232, 50=0.5936, 140=0.55193, 280=0.52554, 560=0.50043, 1120=0.47653, 2520=0.46125 (USD); Reach SVHC Compliant: Yes; ComponentLink1URL: https://datasheet.octopart.com/SJ1-3523N-Same-Sky-datasheet-182050170.pdf?src-supplier=Future+Electronics; ComponentLink1Description: https://datasheet.octopart.com/SJ1-3523N-Same-Sky-datasheet-182050170.pdf?src-supplier=Future+Electronics; ComponentLink2URL: https://datasheet.octopart.com/SJ1-3523N-CUI-datasheet-96929.pdf?src-supplier=Digikey; ComponentLink2Description: https://datasheet.octopart.com/SJ1-3523N-CUI-datasheet-96929.pdf?src-supplier=Digikey; ComponentLink3URL: http://www.cui.com/Product/Resource/FuturePDF/SJ1-352XN_Series.pdf?src-supplier=Future+Electronics; ComponentLink3Description: http://www.cui.com/Product/Resource/FuturePDF/SJ1-352XN_Series.pdf?src-supplier=Future+Electronics; ComponentLink4URL: https://datasheet.octopart.com/SJ1-3523N-CUI-Devices-datasheet-103114031.pdf?src-supplier=Master+Electronics; ComponentLink4Description: https://datasheet.octopart.com/SJ1-3523N-CUI-Devices-datasheet-103114031.pdf?src-supplier=Master+Electronics; ComponentLink5URL: https://datasheet.octopart.com/SJ1-3523N-Same-Sky-datasheet-182881325.pdf?src-supplier=Electro+Sonic; ComponentLink5Description: https://datasheet.octopart.com/SJ1-3523N-Same-Sky-datasheet-182881325.pdf?src-supplier=Electro+Sonic
footprint AudiJack
pins: 1, 2, 3

## SS49E-L
designator T?, comment C828
Hall Effect Sensor, -65mT Min, 1-1.75V, Rectangular, Through Hole Mount; Manufacturer: Honeywell Sensing & Control; Manufacturer Part Number: SS49E-L; Output Type: Analog Current; Linearity: -0.7%; Operating Current-Max: 10mA; Sensor Type: MAGNETIC FIELD SENSOR,HALL EFFECT; Max Supply Voltage: 6.5V; Min Supply Voltage: 2.7V; Sensitivity: 1.4mV/g; Body Breadth: 1.6mm; Body Height: 4.1mm; Supplier: Newark; Supplier Part Number: 71J7825; RoHS: Yes; Category: Sensors; Pricing: 1000=5.97 (USD); Mounting Technology: Through Hole; Housing Material: Plastic; Package Shape/Style: Rectangular; Min Operating Temperature: -40°C; Max Operating Temperature: 100°C; Magnetic Field Range-Min: -65mT; Output Range: 1-1.75V; Termination: Solder; Body Length or Diameter: 4.1mm; RoHS Compliant: Yes; ComponentLink1URL: https://datasheet.ciiva.com:443/pdfs/VipMasterIC/IC/HWSC/HWSC-S-A0000795678/HWSC-S-A0000795678-1.pdf?src-supplier=IHS+Markit; ComponentLink1Description: https://datasheet.ciiva.com:443/pdfs/VipMasterIC/IC/HWSC/HWSC-S-A0000795678/HWSC-S-A0000795678-1.pdf?src-supplier=IHS+Markit; ComponentLink2URL: https://datasheet.ciiva.com/15703/honeywell-sensing-ss39et-ss49e-ss59et-productsheet-15703324.pdf?src-supplier=Onlinecomponents.com; ComponentLink2Description: https://datasheet.ciiva.com/15703/honeywell-sensing-ss39et-ss49e-ss59et-productsheet-15703324.pdf?src-supplier=Onlinecomponents.com
footprint transistor
pins: 1 13, 2, 3 12

## TDA2003AV
designator I?, comment TDA2003A
Audio Amplifier, 12W, 1 Channel(s), 1 Func, Bipolar; Manufacturer: STMicroelectronics; Manufacturer Part Number: TDA2003AV; Bandwidth-Nom: 15MHz; Gain: 40dB; Number of Channels: 1; Power Supplies: 14.4V; Surface Mount: No; Qualification Status: Not Qualified; Supplier: Farnell; Supplier Part Number: 2067880; RoHS: Yes; Category: Amplifiers - Audio; Pricing: 1=0.94, 10=0.83, 100=0.65, 250=0.57, 500=0.5 (GBP); Case/Package: ZIP; Pins: 5; Package Shape: Rectangular; Terminal Finish: Tin; JESD-609 Code: e3; Consumer IC Type: AUDIO AMPLIFIER; Channels: 1; Output Power-Nom: 12W; Technology: BIPOLAR; Terminal Form: Through Hole; Terminal Position: ZIG-ZAG; Terminal Pitch: 1.7mm; RoHS Compliant: Yes; Reach SVHC Compliant: No; ComponentLink1URL: https://datasheet.ciiva.com:443/pdfs/VipMasterIC/IC/SGST/SGSTS34642/SGSTS34847-1.pdf?src-supplier=IHS+Markit; ComponentLink1Description: https://datasheet.ciiva.com:443/pdfs/VipMasterIC/IC/SGST/SGSTS34642/SGSTS34847-1.pdf?src-supplier=IHS+Markit; ComponentLink2URL: https://datasheet.ciiva.com/4767/dm00028077-100155-4767180.pdf?src-supplier=Mouser; ComponentLink2Description: https://datasheet.ciiva.com/4767/dm00028077-100155-4767180.pdf?src-supplier=Mouser; ComponentLink3URL: https://datasheet.ciiva.com/19463/2183867-19463360.pdf?src-supplier=Jameco; ComponentLink3Description: https://datasheet.ciiva.com/19463/2183867-19463360.pdf?src-supplier=Jameco; ComponentLink4URL: https://datasheet.ciiva.com/15131/getdatasheetpartid-365868-15131921.pdf?src-supplier=Verical; ComponentLink4Description: https://datasheet.ciiva.com/15131/getdatasheetpartid-365868-15131921.pdf?src-supplier=Verical; ComponentLink5URL: https://datasheet.ciiva.com/1481/1690488-1481698.pdf?src-supplier=Element14; ComponentLink5Description: https://datasheet.ciiva.com/1481/1690488-1481698.pdf?src-supplier=Element14; ComponentLink6URL: https://datasheet.ciiva.com/16493/dm00028077-16493721.pdf?src-supplier=Future+Electronics; ComponentLink6Description: https://datasheet.ciiva.com/16493/dm00028077-16493721.pdf?src-supplier=Future+Electronics; ComponentLink7URL: https://datasheet.ciiva.com/1790/dm00028077-1790102.pdf?src-supplier=Digikey; ComponentLink7Description: https://datasheet.ciiva.com/1790/dm00028077-1790102.pdf?src-supplier=Digikey
footprint TDA2003AV
pins: 1 NON Inverting, 2 Inverting, 3 GND, 4 OutPut, 5 Suply Voltage